# Altium footprint library HDDR_18X1_0.PcbLib: 1 footprints
Each footprint in its own frame and in the unit in brackets; x right, y up, seen from the top. Pads: shape width x height; smd on the part's side, far side on the other; paste and mask are expansions set on the pad; w line width, h text height; cw(c..) or ccw(c..) is an arc to the next point about the centre after c.
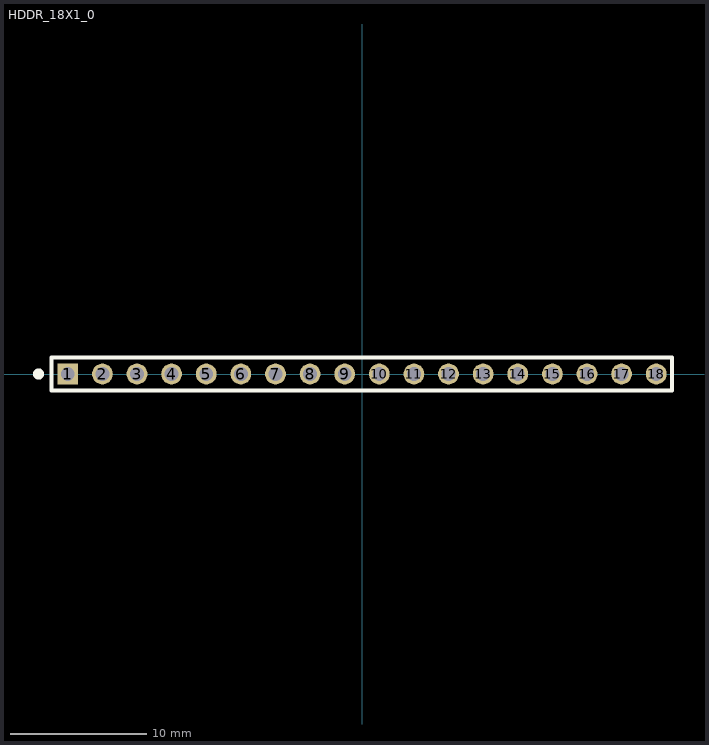
[diagram p0: the footprint, top view; thin cyan lines are the x and y axes]

## HDDR_18X1_0 [mil]
pads (18):
  rect 60x60 hole 40: 1(-850,0)
  round 60 hole 40: 2(-750,0) 3(-650,0) 4(-550,0) 5(-450,0) 6(-350,0) 7(-250,0) 8(-150,0) 9(-50,0) 10(50,0) 11(150,0) 12(250,0) 13(350,0) 14(450,0) 15(550,0) 16(650,0) 17(750,0) 18(850,0)
Top Overlay:
  circle w15.75: c-934.45,0 r7.87
  lines w11.81: -897.24,-47.24 -897.24,47.24 896.06,47.24 896.06,-47.24 -897.24,-47.24